# Altium footprint library uson_14_p50_350x135x55_l30x20.PcbLib: 1 footprints
Each footprint in its own frame and in the unit in brackets; x right, y up, seen from the top. Pads: shape width x height; smd on the part's side, far side on the other; paste and mask are expansions set on the pad; w line width, h text height; cw(c..) or ccw(c..) is an arc to the next point about the centre after c.
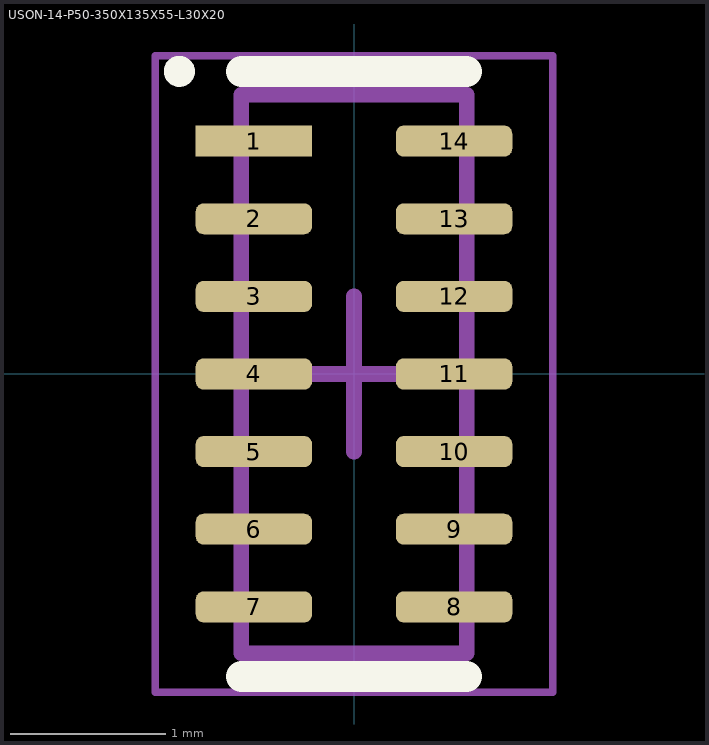
[diagram p0: the footprint, top view; thin cyan lines are the x and y axes]

## USON-14-P50-350X135X55-L30X20 [mm] "SON, 14-Leads, Body 3,50x1,35mm, Pitch 0,50mm, IPC Medium Density"
height 0.55
pads (14):
  rect 0.75x0.2 smd: 1(-0.645,1.5)
  rrect50% 0.75x0.2 smd: 2(-0.645,1) 3(-0.645,0.5) 4(-0.645,0) 5(-0.645,-0.5) 6(-0.645,-1) 7(-0.645,-1.5) 8(0.645,-1.5) 9(0.645,-1) 10(0.645,-0.5) 11(0.645,0) 12(0.645,0.5) 13(0.645,1) 14(0.645,1.5)
Top Overlay:
  circle w0.1: c-1.125,1.95 r0.05
  lines w0.2: -0.725,-1.95 0.725,-1.95 ; -0.725,1.95 0.725,1.95
Top Comment:
  text ".Comment" at 1,2.5 h1.2
Top Designator:
  text ".Designator" at -0.5,2.5 h1.2
Top Component Outline:
  lines w0.1: -0.725,-1.8 -0.725,1.8 0.725,1.8 0.725,-1.8 -0.725,-1.8
Top Courtyard (Mech15):
  lines w0.05: -1.28,-2.05 -1.28,2.05 1.28,2.05 1.28,-2.05 -1.28,-2.05
  lines w0.1: -0.5,0 0.5,0 ; 0,-0.5 0,0.5
3D body "User Library-USON-14_RVZ14.STEP": height 0.55, standoff 0, extent -0.685,-1.75 0.685,1.75